# Altium schematic symbol library S70KS1283GABHB023.SchLib: 1 symbol
Pins are listed as number, name and electrical type; pins without a type are passive.

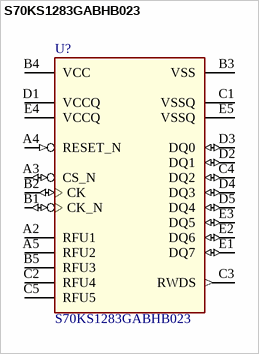
[diagram p0: symbol S70KS1283GABHB023]

## S70KS1283GABHB023
designator U?
64Mb HYPERRAM self-refresh DRAM; Manufacturer: Infineon Technologies; Manufacturer Order Number: S70KS1283GABHB023; PackageReference: PG-BGA-24-801
pins: A2 RFU1 "Reserved for Future Use", A3 CS_N (io) "Chip Select", A4 RESET_N (in) "Hardware Reset", A5 RFU2 "Reserved for Future Use", B1 CK_N (io) "Do not Use", B2 CK (io) "Differential Clock", B3 VSS (power) "Array Ground", B4 VCC (power) "Array Power", B5 RFU3 "Reserved for Future Use", C1 VSSQ (power) "Input/Output Ground", C2 RFU4 "Reserved for Future Use", C3 RWDS (out) "Read-Write Data Strobe", C4 DQ2 (io) "Data Input/Output", C5 RFU5 "Reserved for Future Use", D1 VCCQ (power) "Input/Output Power", D2 DQ1 (io) "Data Input/Output", D3 DQ0 (io) "Data Input/Output", D4 DQ3 (io) "Data Input/Output", D5 DQ4 (io) "Data Input/Output", E1 DQ7 (io) "Data Input/Output", E2 DQ6 (io) "Data Input/Output", E3 DQ5 (io) "Data Input/Output", E4 VCCQ (power) "Input/Output Power", E5 VSSQ (power) "Input/Output Ground"